# EAGLE library part CON_DESITRON_OLED_SSD1303 (library vlsi)
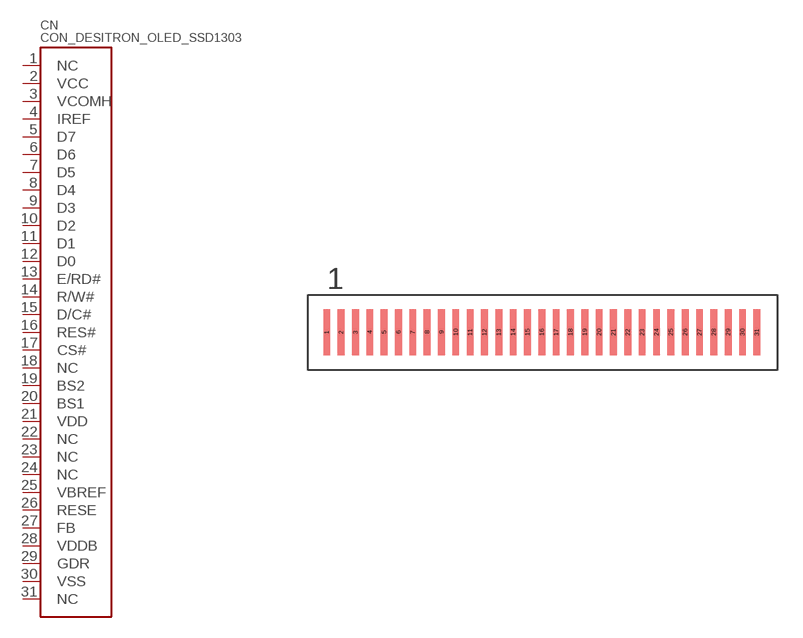
[diagram p6: symbol with the pads of CON_DESITRON_OLED_SSD1303; footprint CON_DESITRON_OLED_SSD1303]

Designator prefix CN

## CON_DESITRON_OLED_SSD1303  [CON_DESITRON_OLED_SSD1303]
1  NC  nc
2  VCC  pwr
3  VCOMH
4  IREF
5  D7
6  D6
7  D5
8  D4
9  D3
10  D2
11  D1
12  D0
13  E/RD#
14  R/W#
15  D/C#
16  RES#
17  CS#
18  NC  nc
19  BS2
20  BS1
21  VDD  pwr
22  NC  nc
23  NC  nc
24  NC  nc
25  VBREF
26  RESE
27  FB
28  VDDB  pwr
29  GDR
30  VSS  pwr
31  NC  nc

## Footprint CON_DESITRON_OLED_SSD1303 (pad centres in mm)
smd 0.4 x 2.7: 1 0,0; 2 0.845,0; 3 1.69,0; 4 2.535,0; 5 3.38,0; 6 4.225,0; 7 5.07,0; 8 5.915,0; 9 6.76,0; 10 7.605,0; 11 8.45,0; 12 9.295,0; 13 10.14,0; 14 10.985,0; 15 11.83,0; 16 12.675,0; 17 13.52,0; 18 14.365,0; 19 15.21,0; 20 16.055,0; 21 16.9,0; 22 17.745,0; 23 18.59,0; 24 19.435,0; 25 20.28,0; 26 21.125,0; 27 21.97,0; 28 22.815,0; 29 23.66,0; 30 24.505,0; 31 25.35,0